# Altium integrated library Fuse1206.IntLib: 1 symbol
Pins are listed as number, name and electrical type; pins without a type are passive.

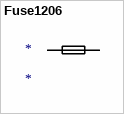
[diagram p0: symbol Fuse1206]

## Fuse1206
designator *
footprint Fuse1206
pins: 0, 1